# Altium footprint library CAPS.PcbLib: 166 footprints (part 2 of 11)
Each footprint in its own frame and in the unit in brackets; x right, y up, seen from the top. Pads: shape width x height; smd on the part's side, far side on the other; paste and mask are expansions set on the pad; w line width, h text height; cw(c..) or ccw(c..) is an arc to the next point about the centre after c.
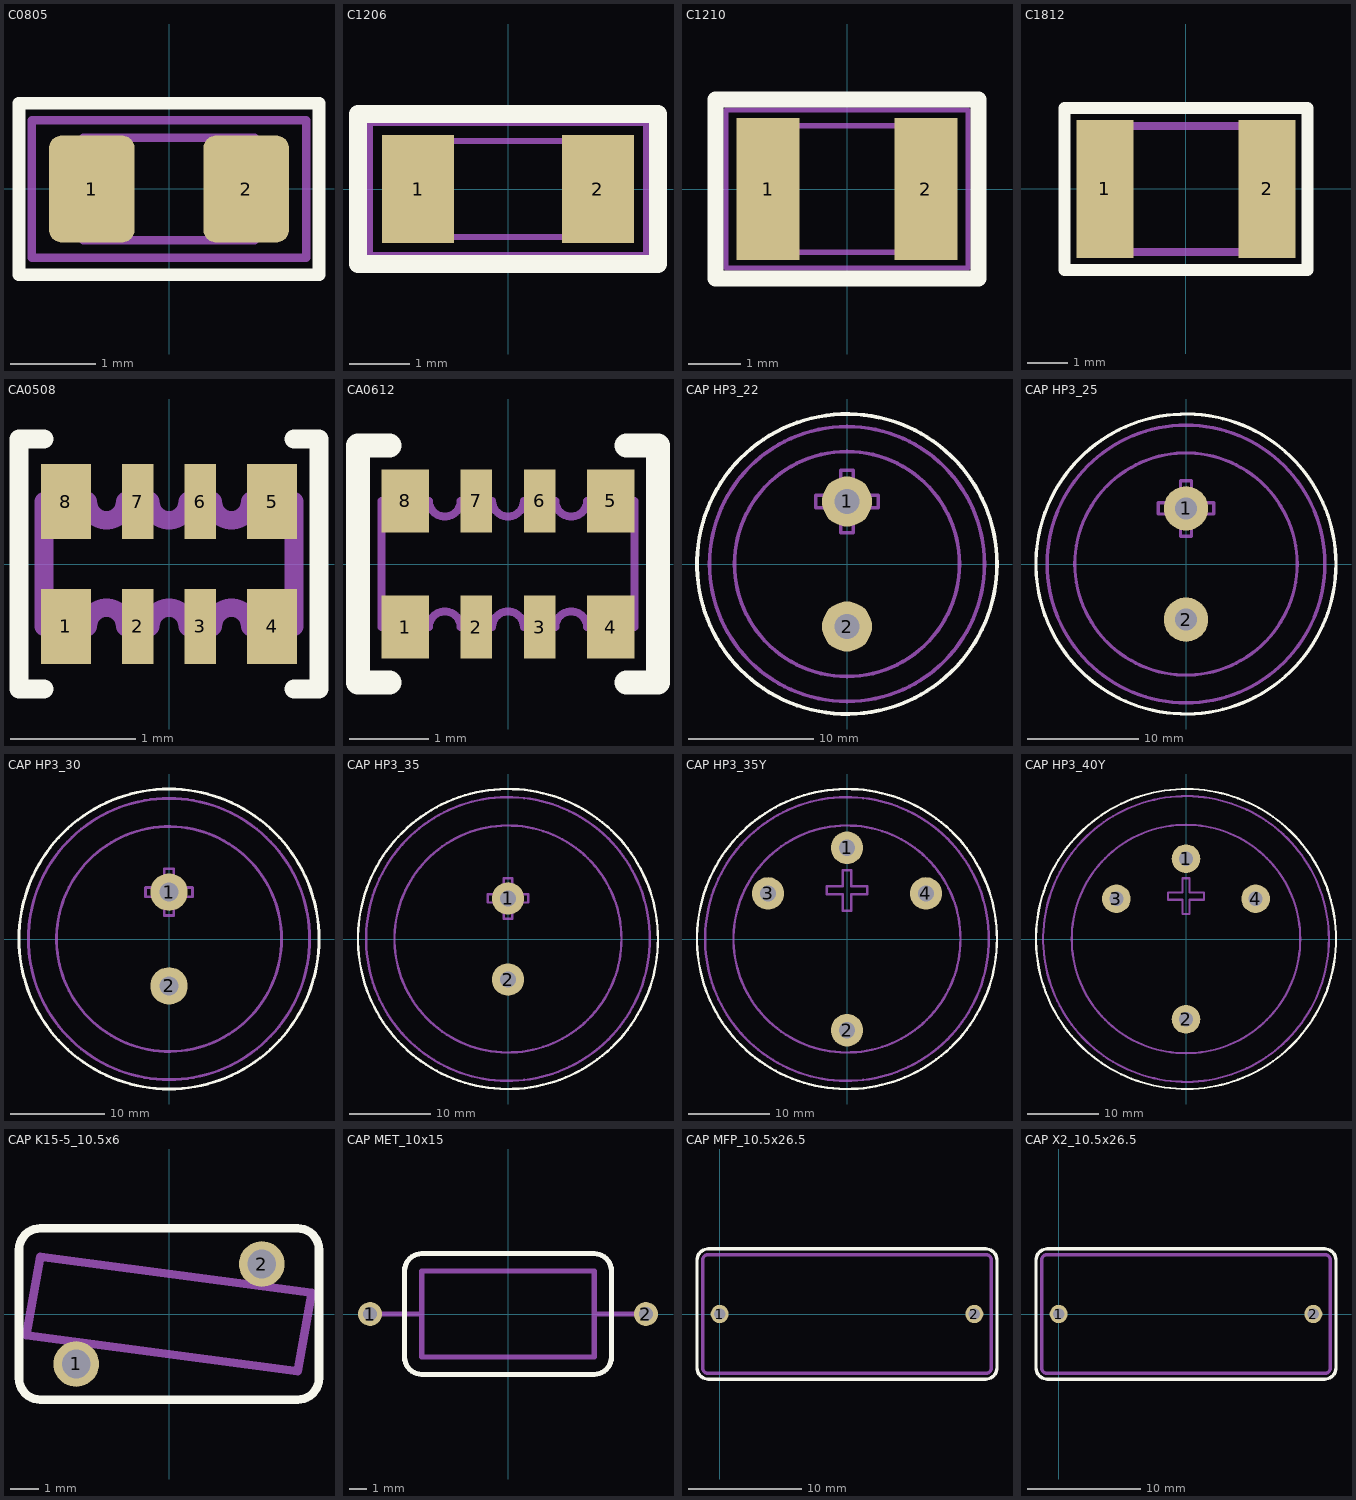
[diagram p1: the footprints below, top view; thin cyan lines are the x and y axes]

## C0805 [mm]
height 1.2
pads (2):
  rrect30% 1x1.25 smd: 1(-0.9,0) 2(0.9,0)
Top Overlay:
  lines w0.15: -1.75,-1 1.75,-1 1.75,1 -1.75,1 -1.75,-1
Mechanical 1:
  lines w0.1: -0.5,-0.6 -0.5,0.6 ; 0.5,-0.6 0.5,0.6 ; -1,-0.6 1,-0.6 1,0.6 -1,0.6 -1,-0.6
Mechanical 5:
  lines w0.1: -1.6,-0.8 1.6,-0.8 1.6,0.8 -1.6,0.8 -1.6,-0.8
  text ".Designator" at -1.3,-0.5 h1
Mechanical 6:
  lines w0.1: -1.6,-0.8 -1.6,0.8 1.6,0.8 1.6,-0.8 -1.6,-0.8
  text ".Comment" at -1.3,-0.5 h1
3D body: height 1.17, standoff 0.03, extent -0.65,-0.575 0.65,0.575
3D body: height 1.2, standoff 0, extent -1,-0.6 -0.5,0.6
3D body: height 1.2, standoff 0, extent 0.5,-0.6 1,0.6

## C1206 [mm]
height 1.6
pads (2):
  rect 1.2x1.8 smd: 1(-1.5,0) 2(1.5,0)
Top Overlay:
  lines w0.3: -2.5,-1.25 2.5,-1.25 2.5,1.25 -2.5,1.25 -2.5,-1.25
Mechanical 1:
  lines w0.1: -1.1,-0.8 -1.1,0.8 ; 1.1,-0.8 1.1,0.8 ; -1.6,-0.8 -1.6,0.8 1.6,0.8 1.6,-0.8 -1.6,-0.8
Mechanical 5:
  lines w0.1: -2.3,-1.1 -2.3,1.1 2.3,1.1 2.3,-1.1 -2.3,-1.1
  text ".Designator" at -2,-0.8 h1.5
Mechanical 6:
  lines w0.1: -2.3,-1.1 2.3,-1.1 2.3,1.1 -2.3,1.1 -2.3,-1.1
  text ".Comment" at -2,-0.8 h1.5
3D body: height 1.58, standoff 0.03, extent -1.225,-0.775 1.225,0.775
3D body: height 1.6, standoff 0, extent -1.6,-0.8 -1.1,0.8
3D body: height 1.6, standoff 0, extent 1.1,-0.8 1.6,0.8

## C1210 [mm]
height 2.5
pads (2):
  rect 1.2x2.7 smd: 1(-1.5,0) 2(1.5,0)
Top Overlay:
  lines w0.3: -2.5,-1.7 -2.5,1.7 2.5,1.7 2.5,-1.7 -2.5,-1.7
Mechanical 1:
  lines w0.1: -1.1,-1.2 -1.1,1.2 ; 1.1,-1.2 1.1,1.2 ; -1.6,-1.2 1.6,-1.2 1.6,1.2 -1.6,1.2 -1.6,-1.2
Mechanical 5:
  lines w0.1: -2.3,-1.5 2.3,-1.5 2.3,1.5 -2.3,1.5 -2.3,-1.5
  text ".Designator" at -2,-0.8 h1.5
Mechanical 6:
  lines w0.1: -2.3,-1.5 -2.3,1.5 2.3,1.5 2.3,-1.5 -2.3,-1.5
  text ".Comment" at -2,-0.8 h1.5
3D body: height 2.5, standoff 0, extent 1.1,-1.25 1.6,1.25
3D body: height 2.5, standoff 0, extent -1.6,-1.25 -1.1,1.25
3D body: height 2.47, standoff 0.03, extent -1.225,-1.225 1.225,1.225

## C1812 [mm]
height 2
pads (2):
  rect 1.4x3.4 smd: 1(-2,0) 2(2,0)
Top Overlay:
  lines w0.3: -3,-2 -3,2 3,2 3,-2 -3,-2
Mechanical 1:
  lines w0.1: -1.65,-1.6 -1.65,1.6 ; 1.65,-1.6 1.65,1.6 ; -2.25,-1.6 -2.25,1.6 2.25,1.6 2.25,-1.6 -2.25,-1.6
Mechanical 5:
  lines w0.1: -2.5,-1.5 2.5,-1.5 2.5,1.5 -2.5,1.5 -2.5,-1.5
  text ".Designator" at -2,-0.8 h1.5
Mechanical 6:
  lines w0.1: -2.5,-1.5 -2.5,1.5 2.5,1.5 2.5,-1.5 -2.5,-1.5
  text ".Comment" at -2,-0.8 h1.5
3D body: height 2, standoff 0, extent 1.6,-1.6 2.25,1.6
3D body: height 2, standoff 0, extent -2.25,-1.6 -1.6,1.6
3D body: height 1.9, standoff 0.1, extent -2,-1.5 2,1.5

## CA0508 [mm]
pads (8):
  rect 0.4x0.6 smd: 1(-0.825,-0.5) 4(0.825,-0.5) 5(0.825,0.5) 8(-0.825,0.5)
  rect 0.25x0.6 smd: 2(-0.25,-0.5) 3(0.25,-0.5) 6(0.25,0.5) 7(-0.25,0.5)
Top Overlay:
  lines w0.15: -1,-1 -1.2,-1 -1.2,1 -1,1 ; 1,-1 1.2,-1 1.2,1 1,1
Mechanical 1:
  lines w0.15: -1,-0.5 -0.65,-0.5 cw(c-0.5,-0.5) -0.35,-0.5 -0.15,-0.5 cw(c0,-0.5) 0.15,-0.5 0.35,-0.5 cw(c0.5,-0.5) 0.65,-0.5 1,-0.5 1,0.5 0.65,0.5 cw(c0.5,0.5) 0.35,0.5 0.15,0.5 cw(c0,0.5) -0.15,0.5 -0.35,0.5 cw(c-0.5,0.5) -0.65,0.5 -1,0.5 -1,-0.5

## CA0612 [mm]
pads (8):
  rect 0.6x0.8 smd: 1(-1.3,-0.8) 4(1.3,-0.8) 5(1.3,0.8) 8(-1.3,0.8)
  rect 0.4x0.8 smd: 2(-0.4,-0.8) 3(0.4,-0.8) 6(0.4,0.8) 7(-0.4,0.8)
Top Overlay:
  lines w0.3: -1.5,-1.5 -1.9,-1.5 -1.9,1.5 -1.5,1.5 ; 1.5,-1.5 1.9,-1.5 1.9,1.5 1.5,1.5
Mechanical 1:
  lines w0.1: -1.6,-0.8 -1,-0.8 cw(c-0.8,-0.8) -0.6,-0.8 -0.2,-0.8 cw(c0,-0.8) 0.2,-0.8 0.6,-0.8 cw(c0.8,-0.8) 1,-0.8 1.6,-0.8 1.6,0.8 1,0.8 cw(c0.8,0.8) 0.6,0.8 0.2,0.8 cw(c0,0.8) -0.2,0.8 -0.6,0.8 cw(c-0.8,0.8) -1,0.8 -1.6,0.8 -1.6,-0.8
3D body: height 0.5, standoff 0, extent 1,0.5 1.55,0.8
3D body: height 0.5, standoff 0, extent 1,-0.8 1.55,-0.5
3D body: height 0.5, standoff 0, extent -1.55,-0.8 -1,-0.5
3D body: height 0.45, standoff 0.05, extent -1.6,-0.6 1.6,0.6
3D body: height 0.5, standoff 0, extent -1.55,0.5 -1,0.8
3D body: height 0.5, standoff 0, extent -0.6,-0.8 -0.2,-0.5
3D body: height 0.5, standoff 0, extent 0.2,-0.8 0.6,-0.5
3D body: height 0.5, standoff 0, extent 0.2,0.5 0.6,0.8
3D body: height 0.5, standoff 0, extent -0.6,0.5 -0.2,0.8

## CAP HP3_22 [mm]
pads (2):
  round 4 hole 2: 1(0,5) 2(0,-5)
Top Overlay:
  circle w0.3: c0,0 r12
Mechanical 1:
  circle w0.3: c0,0 r9
  circle w0.3: c0,0 r11
  lines w0.3: -2.5,4.5 -0.5,4.5 -0.5,2.5 0.5,2.5 0.5,4.5 2.5,4.5 2.5,5.5 0.5,5.5 0.5,7.5 -0.5,7.5 -0.5,5.5 -2.5,5.5 -2.5,4.5

## CAP HP3_25 [mm]
pads (2):
  round 4 hole 2: 1(0,5) 2(0,-5)
Top Overlay:
  circle w0.3: c0,0 r13.5
Mechanical 1:
  circle w0.3: c0,0 r10
  circle w0.3: c0,0 r12.5
  lines w0.3: -2.5,4.5 -0.5,4.5 -0.5,2.5 0.5,2.5 0.5,4.5 2.5,4.5 2.5,5.5 0.5,5.5 0.5,7.5 -0.5,7.5 -0.5,5.5 -2.5,5.5 -2.5,4.5

## CAP HP3_30 [mm]
pads (2):
  round 4 hole 2: 1(0,5) 2(0,-5)
Top Overlay:
  circle w0.3: c0,0 r16
Mechanical 1:
  circle w0.3: c0,0 r15
  circle w0.3: c0,0 r12
  lines w0.3: -2.5,4.5 -0.5,4.5 -0.5,2.5 0.5,2.5 0.5,4.5 2.5,4.5 2.5,5.5 0.5,5.5 0.5,7.5 -0.5,7.5 -0.5,5.5 -2.5,5.5 -2.5,4.5

## CAP HP3_35 [mm]
pads (2):
  round 4 hole 2: 1(0,5) 2(0,-5)
Top Overlay:
  circle w0.3: c0,0 r18.5
Mechanical 1:
  circle w0.3: c0,0 r14
  circle w0.3: c0,0 r17.5
  lines w0.3: -2.5,4.5 -2.5,5.5 -0.5,5.5 -0.5,7.5 0.5,7.5 0.5,5.5 2.5,5.5 2.5,4.5 0.5,4.5 0.5,2.5 -0.5,2.5 -0.5,4.5 -2.5,4.5

## CAP HP3_35Y [mm]
pads (4):
  round 4 hole 2: 1(0,11.25) 2(0,-11.25) 3(-9.743,5.625) 4(9.743,5.625)
Top Overlay:
  circle w0.3: c0,0 r18.5
Mechanical 1:
  circle w0.3: c0,0 r14
  circle w0.3: c0,0 r17.5
  lines w0.3: -2.5,5.5 -2.5,6.5 -0.5,6.5 -0.5,8.5 0.5,8.5 0.5,6.5 2.5,6.5 2.5,5.5 0.5,5.5 0.5,3.5 -0.5,3.5 -0.5,5.5 -2.5,5.5

## CAP HP3_40Y [mm]
pads (4):
  round 4 hole 2: 1(0,11.25) 2(0,-11.25) 3(-9.743,5.625) 4(9.743,5.625)
Top Overlay:
  circle w0.3: c0,0 r21
Mechanical 1:
  circle w0.3: c0,0 r16
  circle w0.3: c0,0 r20
  lines w0.3: -2.5,5.5 -0.5,5.5 -0.5,3.5 0.5,3.5 0.5,5.5 2.5,5.5 2.5,6.5 0.5,6.5 0.5,8.5 -0.5,8.5 -0.5,6.5 -2.5,6.5 -2.5,5.5

## CAP K15-5_10.5x6 [mm]
pads (2):
  round 1.6 hole 1: 1(-3.25,-1.75) 2(3.25,1.75)
Top Overlay:
  lines w0.3: -5.25,-2.25 ccw(c-4.5,-2.25) -4.5,-3 4.5,-3 ccw(c4.5,-2.25) 5.25,-2.25 5.25,2.25 ccw(c4.5,2.25) 4.5,3 -4.5,3 ccw(c-4.5,2.25) -5.25,2.25 -5.25,-2.25
Mechanical 1:
  lines w0.3: -5,-0.75 -4.5,2 5,0.75 4.5,-2 -5,-0.75

## CAP MET_10x15 [mm]
pads (2):
  round 1.4 hole 0.8: 1(-8,0) 2(8,0)
Top Overlay:
  lines w0.3: -6,-2.5 ccw(c-5,-2.5) -5,-3.5 5,-3.5 ccw(c5,-2.5) 6,-2.5 6,2.5 ccw(c5,2.5) 5,3.5 -5,3.5 ccw(c-5,2.5) -6,2.5 -6,-2.5
Mechanical 1:
  lines w0.3: -8,0 -5,0 ; 5,0 8,0 ; -5,-2.5 -5,2.5 5,2.5 5,-2.5 -5,-2.5

## CAP MFP_10.5x26.5 [mm]
pads (2):
  round 1.6 hole 1: 1(0,0) 2(22.5,0)
Top Overlay:
  lines w0.3: -2,-4.75 ccw(c-1,-4.75) -1,-5.75 23.5,-5.75 ccw(c23.5,-4.75) 24.5,-4.75 24.5,4.75 ccw(c23.5,4.75) 23.5,5.75 -1,5.75 ccw(c-1,4.75) -2,4.75 -2,-4.75
Mechanical 1:
  lines w0.3: -1.5,-4.75 ccw(c-1,-4.75) -1,-5.25 23.5,-5.25 ccw(c23.5,-4.75) 24,-4.75 24,4.75 ccw(c23.5,4.75) 23.5,5.25 -1,5.25 ccw(c-1,4.75) -1.5,4.75 -1.5,-4.75

## CAP X2_10.5x26.5 [mm]
pads (2):
  round 1.6 hole 1: 1(0,0) 2(22.5,0)
Top Overlay:
  lines w0.3: -2,-4.75 ccw(c-1,-4.75) -1,-5.75 23.5,-5.75 ccw(c23.5,-4.75) 24.5,-4.75 24.5,4.75 ccw(c23.5,4.75) 23.5,5.75 -1,5.75 ccw(c-1,4.75) -2,4.75 -2,-4.75
Mechanical 1:
  lines w0.3: -1.5,-4.75 ccw(c-1,-4.75) -1,-5.25 23.5,-5.25 ccw(c23.5,-4.75) 24,-4.75 24,4.75 ccw(c23.5,4.75) 23.5,5.25 -1,5.25 ccw(c-1,4.75) -1.5,4.75 -1.5,-4.75